# Altium schematic symbol library Sensors.SchLib: 2 symbols
Pins are listed as number, name and electrical type; pins without a type are passive.

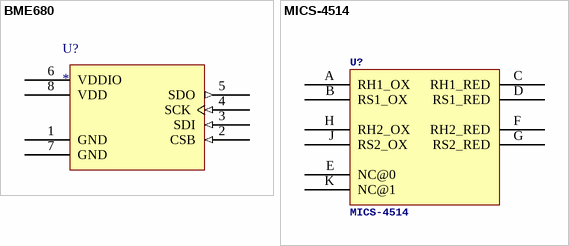
[diagram p0: symbols BME680 to MICS-4514]

## BME680
designator U?
Bosch Sensortec BME680 Integrated Environmental Unit is an environmental sensor for mobile applications and wearables. BME680 combines a gas sensor with air pressure, humidity, and ambient air temperature sensing functions within a single package. The combo MEMS solution enables multiple new capabilities for portable and mobile devices such as air quality measurement, home automation and other applications for the Internet of Things (IoT). / The BME680 sensor offers high accuracy and low power consumption in an efficient and cost-saving manner. Applications include smart homes, smart offices and buildings, smart energy, smart transportation, HVAC, elderly care, and sport/fitness.
footprint LGA-8
pins: 1 GND (power), 2 CSB (in), 3 SDI (in), 4 SCK (in), 5 SDO (out), 6 VDDIO (power), 7 GND (power), 8 VDD (power)

## MICS-4514
designator U?
Combined CO and NO2 Sensor; GateName_1: G$1; SymbolName_1: MICS-4514; LibraryName: mics; DeviceSetName: MICS-4514; Package: MICS
footprint MICS
pins: A RH1_OX, B RS1_OX, C RH1_RED, D RS1_RED, E NC@0, F RH2_RED, G RS2_RED, H RH2_OX, J RS2_OX, K NC@1